# Altium integrated library 1-534206-0.IntLib: 1 symbol
Pins are listed as number, name and electrical type; pins without a type are passive.

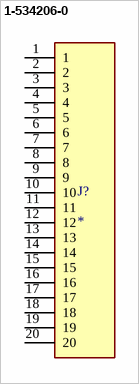
[diagram p0: symbol 1-534206-0]

## 1-534206-0
designator J?
AMPMODU Mod II Series 20 Position Through-Hole Vertical .100 Inch Receptacle; MP: 1-534206-0; MF: TE Connectivity; Price: None; Purchase-URL: https://pricing.snapeda.com/search/part/1-534206-0/?ref=eda; Package: None; Check_prices: https://www.snapeda.com/parts/1-534206-0/TE+Connectivity+AMP+Connectors/view-part/?ref=eda; Value: *; Availability: In Stock; SnapEDA_Link: https://www.snapeda.com/parts/1-534206-0/TE+Connectivity+AMP+Connectors/view-part/?ref=snap
footprint TE_1-534206-0
pins: 1, 2, 3, 4, 5, 6, 7, 8, 9, 10, 11, 12, 13, 14, 15, 16, 17, 18, 19, 20